# EAGLE library part MSP430G2452IPW20 (library pulseoxparts)
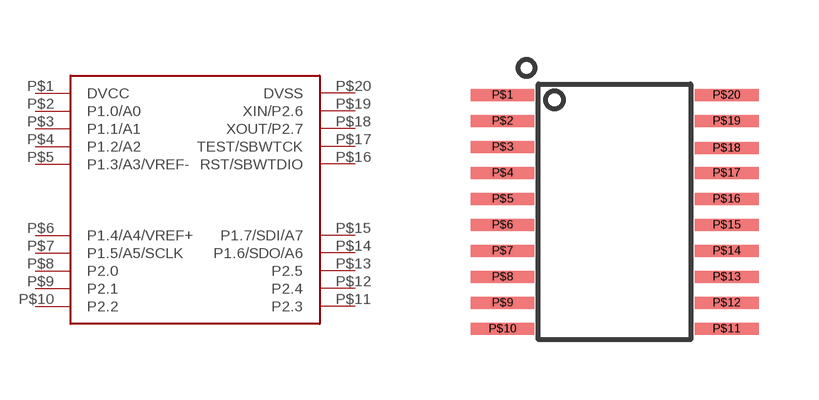
[diagram p0: symbol with the pads of TSSOP-20; footprint TSSOP-20]

Designator prefix -

## MSP430G2452IPW20  [TSSOP-20]
P$1  DVCC
P$2  P1.0/A0
P$3  P1.1/A1
P$4  P1.2/A2
P$5  P1.3/A3/VREF-
P$6  P1.4/A4/VREF+
P$7  P1.5/A5/SCLK
P$8  P2.0
P$9  P2.1
P$10  P2.2
P$11  P2.3
P$12  P2.4
P$13  P2.5
P$14  P1.6/SDO/A6
P$15  P1.7/SDI/A7
P$16  RST/SBWTDIO
P$17  TEST/SBWTCK
P$18  XOUT/P2.7
P$19  XIN/P2.6
P$20  DVSS

## Footprint TSSOP-20 (pad centres in mm)
smd 1.6 x 0.3: P$1 -2.8,2.925; P$2 -2.8,2.275; P$3 -2.8,1.625; P$4 -2.8,0.975; P$5 -2.8,0.325; P$6 -2.8,-0.325; P$7 -2.8,-0.975; P$8 -2.8,-1.625; P$9 -2.8,-2.275; P$10 -2.8,-2.925; P$11 2.8,-2.925; P$12 2.8,-2.275; P$13 2.8,-1.625; P$14 2.8,-0.975; P$15 2.8,-0.325; P$16 2.8,0.325; P$17 2.8,0.975; P$18 2.8,1.6; P$19 2.8,2.275; P$20 2.8,2.925